# Altium schematic symbol library TPD4E1B06DCKR.SchLib: 1 symbol
Pins are listed as number, name and electrical type; pins without a type are passive.

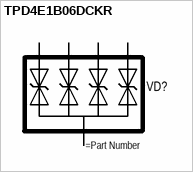
[diagram p0: symbol TPD4E1B06DCKR]

## TPD4E1B06DCKR
designator VD?
footprint SOT23
pins: 1, 2, 3, 4, 5